# EAGLE library part NL5441/A (library nixie_tube)
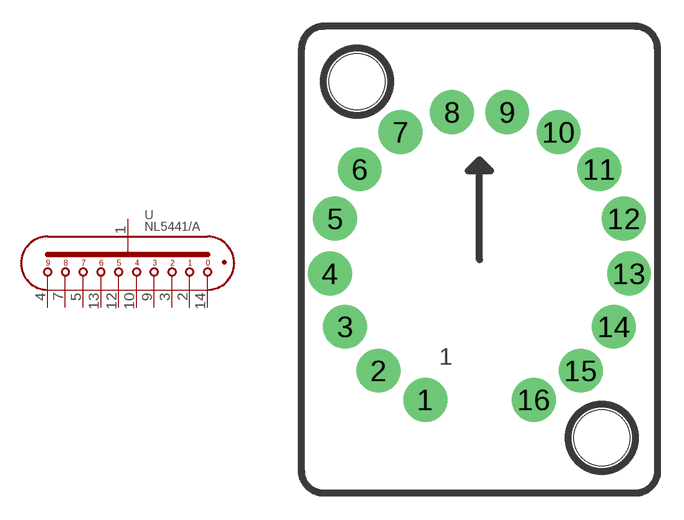
[diagram p3: symbol with the pads of BURROUGHS-16-MINI; footprint BURROUGHS-16-MINI]

Designator prefix -

## NL5441/A  [BURROUGHS-16-MINI]
1  A  pas
2  1  pas
3  2  pas
4  9  pas
5  7  pas
7  8  pas
9  3  pas
10  4  pas
12  5  pas
13  6  pas
14  0  pas

## Footprint BURROUGHS-16-MINI (pad centres in mm)
drill 1.669 round: 1 -3.097,-7.994; 2 -5.776,-6.335; 3 -7.674,-3.821; 4 -8.536,-0.791; 5 -8.246,2.346; 6 -6.841,5.166; 7 -4.513,7.289; 8 -1.575,8.427; 9 1.575,8.427; 10 4.513,7.289; 11 6.841,5.166; 12 8.246,2.346; 13 8.536,-0.791; 14 7.674,-3.821; 15 5.776,-6.335; 16 3.097,-7.994
hole 3.2 at -6.985,10.16
hole 3.2 at 6.985,-10.16